# Altium footprint library Charger.PcbLib: 7 footprints
Each footprint in its own frame and in the unit in brackets; x right, y up, seen from the top. Pads: shape width x height; smd on the part's side, far side on the other; paste and mask are expansions set on the pad; w line width, h text height; cw(c..) or ccw(c..) is an arc to the next point about the centre after c.
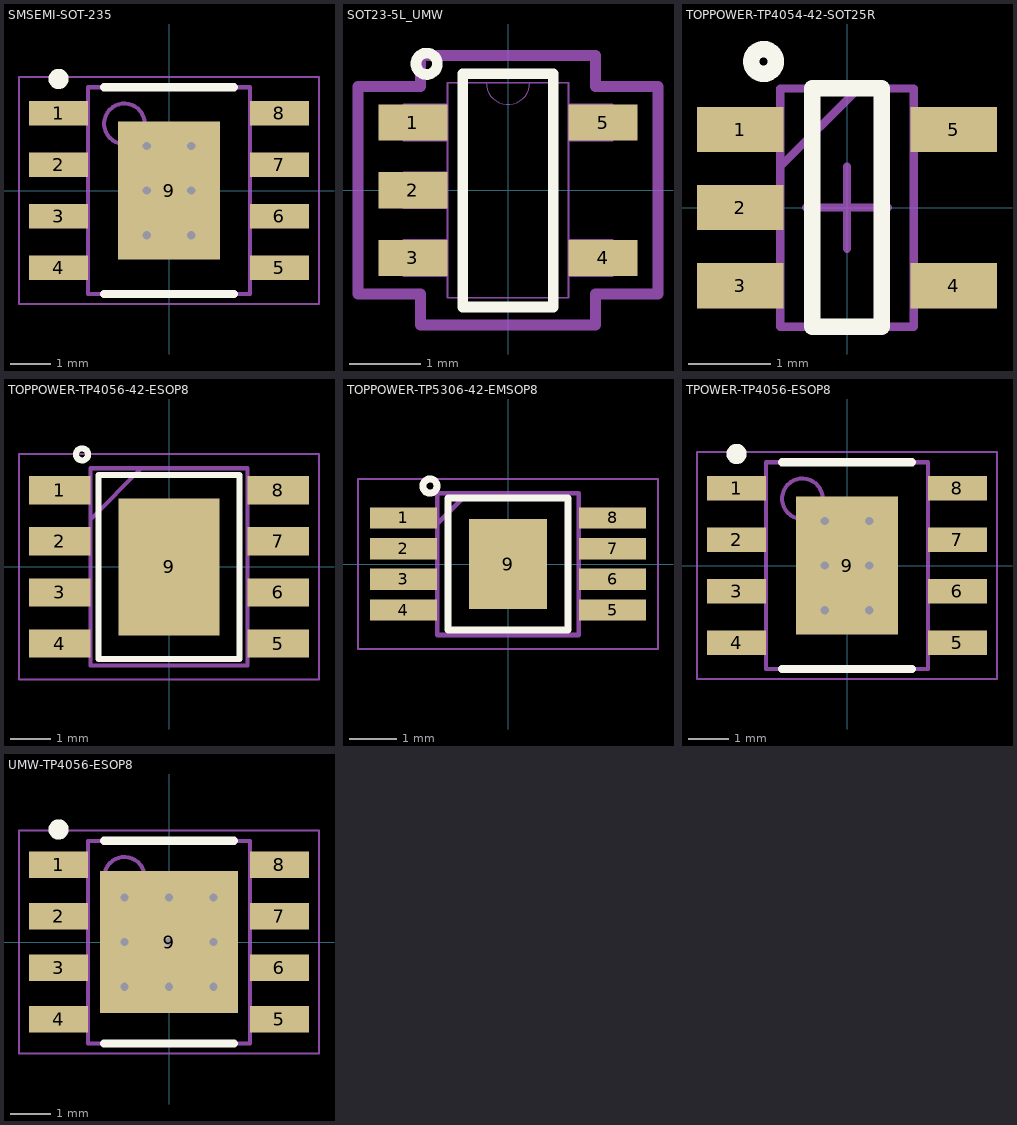
[diagram p0: the footprints below, top view; thin cyan lines are the x and y axes]

## SMSEMI-SOT-235 [mm]
pads (9):
  rect 1.45x0.6 smd: 1(-2.725,1.905) 2(-2.725,0.635) 3(-2.725,-0.635) 4(-2.725,-1.905) 5(2.725,-1.905) 6(2.725,-0.635) 7(2.725,0.635) 8(2.725,1.905)
  rect 2.52x3.41 smd: 9(0,0)
via -0.55,1.1 diameter 0.5 hole 0.2
via 0.55,1.1 diameter 0.5 hole 0.2
via -0.55,0 diameter 0.5 hole 0.2
via 0.55,0 diameter 0.5 hole 0.2
via -0.55,-1.1 diameter 0.5 hole 0.2
via 0.55,-1.1 diameter 0.5 hole 0.2
Top Overlay:
  circle w0.25: c-2.725,2.755 r0.125
  lines w0.2: -1.6,-2.55 1.6,-2.55 ; -1.6,2.55 1.6,2.55
Top Assembly:
  circle w0.1: c-1.1,1.65 r0.5
  lines w0.1: -2,-2.55 -2,2.55 2,2.55 2,-2.55 -2,-2.55
Mechanical 15:
  lines w0.05: -3.7,-2.8 -3.7,2.8 3.7,2.8 3.7,-2.8 -3.7,-2.8
  lines w0.1: -0.5,0 0.5,0 ; 0,-0.5 0,0.5
3D body "MSKSEMI-SOP8.step": height 1.75, standoff 0, extent -3,-2.55 3,2.55

## SOT23-5L_UMW [mil]
pads (5):
  rect 38.28x20 smd: 1(-52.64,37.4) 2(-52.64,0) 3(-52.64,-37.4) 4(52.64,-37.4) 5(52.64,37.4)
Top Overlay:
  circle w5.91: c-45,70 r5.91
  lines w5.91: -25,-64.5 -25,64.5 ; 25,-64.5 25,64.5
  lines w6: -25,-64.5 25,-64.5 ; -25,64.5 25,64.5
Mechanical 13:
  lines w0: -12,59.5 ccw(c0,59.5) 12,59.5
  lines w1: -58,-47.4 -33.5,-47.4 -33.5,-27.4 -58,-27.4 -58,-47.4 ; -58,-10 -33.5,-10 -33.5,10 -58,10 -58,-10 ; -58,27.4 -33.5,27.4 -33.5,47.4 -58,47.4 -58,27.4 ; -33.5,-59.5 -33.5,59.5 33.5,59.5 33.5,-59.5 -33.5,-59.5 ; 33.5,-47.4 58,-47.4 58,-27.4 33.5,-27.4 33.5,-47.4 ; 33.5,27.4 58,27.4 58,47.4 33.5,47.4 33.5,27.4
Mechanical 15:
  lines w6: -83,-57.4 -83,57.4 -48.5,57.4 -48.5,74.5 48.5,74.5 48.5,57.4 83,57.4 83,-57.4 48.5,-57.4 48.5,-74.5 -48.5,-74.5 -48.5,-57.4 -83,-57.4
3D body "SOT23-5L_UMW.step": height 49.09, standoff 0, extent -57.99,-59.49 57.99,59.49

## TOPPOWER-TP4054-42-SOT25R [mm]
pads (5):
  rect 1.05x0.55 smd: 1(-1.3,0.95) 2(-1.3,0) 3(-1.3,-0.95) 4(1.3,-0.95) 5(1.3,0.95)
Top Overlay:
  circle w0.2: c-1.016,1.778 r0.15
  lines w0.2: -0.425,-1.45 0.425,-1.45 0.425,1.45 -0.425,1.45 -0.425,-1.45
Mechanical 15:
  lines w0.1: -0.812,0.5 0.138,1.45 ; -0.5,0 0.5,0 ; 0,-0.5 0,0.5 ; -0.812,-1.45 0.812,-1.45 0.812,1.45 -0.812,1.45 -0.812,-1.45
3D body "TOPPOWER-TP4054.stp": height 1, standoff 0, extent -1.4,-1.45 1.4,1.45

## TOPPOWER-TP4056-42-ESOP8 [mm] "SOIC127P600X175-9N"
pads (9):
  rect 1.525x0.7 smd: 1(-2.712,1.905) 2(-2.712,0.635) 3(-2.712,-0.635) 4(-2.712,-1.905) 5(2.712,-1.905) 6(2.712,-0.635) 7(2.712,0.635) 8(2.712,1.905)
  rect 2.513x3.402 smd: 9(0,0)
Top Overlay:
  circle w0.15: c-2.159,2.794 r0.15
  lines w0.15: -1.751,-2.286 1.751,-2.286 1.751,2.286 -1.751,2.286 -1.751,-2.286
Mechanical 15:
  lines w0.1: -1.95,1.18 -0.68,2.45 ; -0.5,0 0.5,0 ; 0,-0.5 0,0.5 ; -1.95,-2.45 1.95,-2.45 1.95,2.45 -1.95,2.45 -1.95,-2.45
Mechanical 20:
  lines w0.05: -3.725,-2.8 3.725,-2.8 3.725,2.8 -3.725,2.8 -3.725,-2.8
3D body "TOPPOWER-TP4056-ESOP8.stp": height 1.75, standoff 0, extent -3,-2.45 3,2.45

## TOPPOWER-TP5306-42-EMSOP8 [mm] "SOP65P490X110-9N"
pads (9):
  rect 1.425x0.45 smd mask+0.05: 1(-2.212,0.975) 2(-2.212,0.325) 3(-2.212,-0.325) 4(-2.212,-0.975) 5(2.212,-0.975) 6(2.212,-0.325) 7(2.212,0.325) 8(2.212,0.975)
  rect 1.65x1.9 smd: 9(0,0)
Top Overlay:
  circle w0.15: c-1.651,1.651 r0.15
  lines w0.15: -1.27,-1.397 1.27,-1.397 1.27,1.397 -1.27,1.397 -1.27,-1.397
Mechanical 15:
  lines w0.1: -1.5,0.85 -0.85,1.5 ; -0.5,0 0.5,0 ; 0,-0.5 0,0.5 ; -1.5,-1.5 1.5,-1.5 1.5,1.5 -1.5,1.5 -1.5,-1.5
Mechanical 20:
  lines w0.05: -3.175,-1.8 3.175,-1.8 3.175,1.8 -3.175,1.8 -3.175,-1.8
3D body "TOPPOWER-TP4056-EMSOP8.stp": height 1.1, standoff 0, extent -2.45,-1.5 2.45,1.5

## TPOWER-TP4056-ESOP8 [mm] "SOP, 8-Leads, Body 4.90x3.90mm, Pitch 1.27mm, Thermal Pad 3.41x2.52mm, IPC Medium Density"
height 1.75
pads (9):
  rect 1.45x0.6 smd: 1(-2.725,1.905) 2(-2.725,0.635) 3(-2.725,-0.635) 4(-2.725,-1.905) 5(2.725,-1.905) 6(2.725,-0.635) 7(2.725,0.635) 8(2.725,1.905)
  rect 2.52x3.41 smd: 9(0,0)
via 0.55,-1.1 diameter 0.5 hole 0.2
via -0.55,-1.1 diameter 0.5 hole 0.2
via 0.55,0 diameter 0.5 hole 0.2
via -0.55,0 diameter 0.5 hole 0.2
via 0.55,1.1 diameter 0.5 hole 0.2
via -0.55,1.1 diameter 0.5 hole 0.2
Top Overlay:
  circle w0.25: c-2.725,2.755 r0.125
  lines w0.2: -1.6,-2.55 1.6,-2.55 ; -1.6,2.55 1.6,2.55
Top Assembly:
  circle w0.1: c-1.1,1.65 r0.5
  lines w0.1: -2,-2.55 2,-2.55 2,2.55 -2,2.55 -2,-2.55
Mechanical 15:
  lines w0.05: -3.7,-2.8 3.7,-2.8 3.7,2.8 -3.7,2.8 -3.7,-2.8
  lines w0.1: -0.5,0 0.5,0 ; 0,-0.5 0,0.5
3D body "TPOWER-TP4056-ESOP8.step": height 1.75, standoff 0, extent -3,-2.55 3,2.55

## UMW-TP4056-ESOP8 [mm] "TSOP, 8-Leads, Body 4.90x3.90mm, Pitch 1.27mm, Thermal Pad 3.50x3.40mm, IPC Medium Density"
height 1.55
pads (9):
  rect 1.45x0.65 smd: 1(-2.725,1.905) 2(-2.725,0.635) 3(-2.725,-0.635) 4(-2.725,-1.905) 5(2.725,-1.905) 6(2.725,-0.635) 7(2.725,0.635) 8(2.725,1.905)
  rect 3.4x3.5 smd: 9(0,0)
via -1.1,1.1 diameter 0.5 hole 0.2
via 0,1.1 diameter 0.5 hole 0.2
via 1.1,1.1 diameter 0.5 hole 0.2
via -1.1,0 diameter 0.5 hole 0.2
via 1.1,0 diameter 0.5 hole 0.2
via -1.1,-1.1 diameter 0.5 hole 0.2
via 0,-1.1 diameter 0.5 hole 0.2
via 1.1,-1.1 diameter 0.5 hole 0.2
via 0,0 diameter 0.5 hole 0.2
Top Overlay:
  circle w0.25: c-2.725,2.78 r0.125
  lines w0.2: -1.6,-2.5 1.6,-2.5 ; -1.6,2.5 1.6,2.5
Top Assembly:
  circle w0.1: c-1.1,1.6 r0.5
  lines w0.1: -2,-2.5 -2,2.5 2,2.5 2,-2.5 -2,-2.5
Mechanical 15:
  lines w0.05: -3.7,-2.75 -3.7,2.75 3.7,2.75 3.7,-2.75 -3.7,-2.75
  lines w0.1: -0.5,0 0.5,0 ; 0,-0.5 0,0.5
3D body "UMW-TP4056-ESOP8.step": height 1.55, standoff 0, extent -3,-2.5 3,2.5